# Altium footprint library Header-2mm-2X22-M-V.PcbLib: 1 footprints
Each footprint in its own frame and in the unit in brackets; x right, y up, seen from the top. Pads: shape width x height; smd on the part's side, far side on the other; paste and mask are expansions set on the pad; w line width, h text height; cw(c..) or ccw(c..) is an arc to the next point about the centre after c.
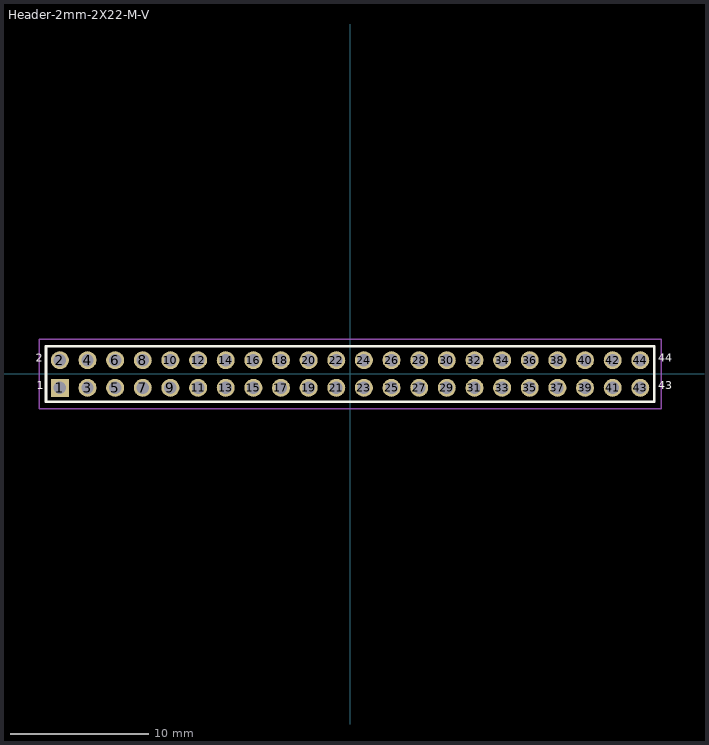
[diagram p0: the footprint, top view; thin cyan lines are the x and y axes]

## Header-2mm-2X22-M-V [mm]
pads (44):
  rect 1.3x1.3 hole 0.9: 1(-21,-1)
  round 1.3 hole 0.9: 2(-21,1) 3(-19,-1) 4(-19,1) 5(-17,-1) 6(-17,1) 7(-15,-1) 8(-15,1) 9(-13,-1) 10(-13,1) 11(-11,-1) 12(-11,1) 13(-9,-1) 14(-9,1) 15(-7,-1) 16(-7,1) 17(-5,-1) 18(-5,1) 19(-3,-1) 20(-3,1) 21(-1,-1) 22(-1,1) 23(1,-1) 24(1,1) 25(3,-1) 26(3,1) 27(5,-1) 28(5,1) 29(7,-1) 30(7,1) 31(9,-1) 32(9,1) 33(11,-1) 34(11,1) 35(13,-1) 36(13,1) 37(15,-1) 38(15,1) 39(17,-1) 40(17,1) 41(19,-1) 42(19,1) 43(21,-1) 44(21,1)
Top Overlay:
  lines w0.2: -22,-2 -22,2 22,2 22,-2 -22,-2
  text "44" at 22.296,0.679 h1
  text "43" at 22.305,-1.316 h1
  text "2" at -22.74,0.678 h1
  text "1" at -22.666,-1.322 h1
Top Courtyard:
  lines w0.1: -22.5,-2.5 -22.5,2.5 22.5,2.5 22.5,-2.5 -22,-2.5 -22.5,-2.5
3D body "MTMM-101-03-F-S-150.stp": height 5.31, standoff -2.36, extent 20,0.001 22,2
3D body "MTMM-101-03-F-S-150.stp": height 5.31, standoff -2.36, extent 20,-1.999 22,0
3D body "MTMM-101-03-F-S-150.stp": height 5.31, standoff -2.36, extent 18,0.001 20,2
3D body "MTMM-101-03-F-S-150.stp": height 5.31, standoff -2.36, extent 18,-1.999 20,0
3D body "MTMM-101-03-F-S-150.stp": height 5.31, standoff -2.36, extent 16,0.001 18,2
3D body "MTMM-101-03-F-S-150.stp": height 5.31, standoff -2.36, extent 16,-1.999 18,0
3D body "MTMM-101-03-F-S-150.stp": height 5.31, standoff -2.36, extent 14,0.001 16,2
3D body "MTMM-101-03-F-S-150.stp": height 5.31, standoff -2.36, extent 14,-1.999 16,0
3D body "MTMM-101-03-F-S-150.stp": height 5.31, standoff -2.36, extent 12,0.001 14,2
3D body "MTMM-101-03-F-S-150.stp": height 5.31, standoff -2.36, extent 12,-1.999 14,0
3D body "MTMM-101-03-F-S-150.stp": height 5.31, standoff -2.36, extent 10,0.001 12,2
3D body "MTMM-101-03-F-S-150.stp": height 5.31, standoff -2.36, extent 10,-1.999 12,0
3D body "MTMM-101-03-F-S-150.stp": height 5.31, standoff -2.36, extent 8,0.001 10,2
3D body "MTMM-101-03-F-S-150.stp": height 5.31, standoff -2.36, extent 8,-1.999 10,0
3D body "MTMM-101-03-F-S-150.stp": height 5.31, standoff -2.36, extent 6,0.001 8,2
3D body "MTMM-101-03-F-S-150.stp": height 5.31, standoff -2.36, extent 6,-1.999 8,0
3D body "MTMM-101-03-F-S-150.stp": height 5.31, standoff -2.36, extent 4,0.001 6,2
3D body "MTMM-101-03-F-S-150.stp": height 5.31, standoff -2.36, extent 4,-1.999 6,0
3D body "MTMM-101-03-F-S-150.stp": height 5.31, standoff -2.36, extent 2,0.001 4,2
3D body "MTMM-101-03-F-S-150.stp": height 5.31, standoff -2.36, extent 2,-1.999 4,0
3D body "MTMM-101-03-F-S-150.stp": height 5.31, standoff -2.36, extent 0,0.001 2,2
3D body "MTMM-101-03-F-S-150.stp": height 5.31, standoff -2.36, extent 0,-1.999 2,0
3D body "MTMM-101-03-F-S-150.stp": height 5.31, standoff -2.36, extent -2,0.001 0,2
3D body "MTMM-101-03-F-S-150.stp": height 5.31, standoff -2.36, extent -2,-1.999 0,0
3D body "MTMM-101-03-F-S-150.stp": height 5.31, standoff -2.36, extent -4,0.001 -2,2
3D body "MTMM-101-03-F-S-150.stp": height 5.31, standoff -2.36, extent -4,-1.999 -2,0
3D body "MTMM-101-03-F-S-150.stp": height 5.31, standoff -2.36, extent -6,0.001 -4,2
3D body "MTMM-101-03-F-S-150.stp": height 5.31, standoff -2.36, extent -6,-1.999 -4,0
3D body "MTMM-101-03-F-S-150.stp": height 5.31, standoff -2.36, extent -8,0.001 -6,2
3D body "MTMM-101-03-F-S-150.stp": height 5.31, standoff -2.36, extent -8,-1.999 -6,0
3D body "MTMM-101-03-F-S-150.stp": height 5.31, standoff -2.36, extent -10,0.001 -8,2
3D body "MTMM-101-03-F-S-150.stp": height 5.31, standoff -2.36, extent -10,-1.999 -8,0
3D body "MTMM-101-03-F-S-150.stp": height 5.31, standoff -2.36, extent -12,0.001 -10,2
3D body "MTMM-101-03-F-S-150.stp": height 5.31, standoff -2.36, extent -12,-1.999 -10,0
3D body "MTMM-101-03-F-S-150.stp": height 5.31, standoff -2.36, extent -14,0.001 -12,2
3D body "MTMM-101-03-F-S-150.stp": height 5.31, standoff -2.36, extent -14,-1.999 -12,0
3D body "MTMM-101-03-F-S-150.stp": height 5.31, standoff -2.36, extent -16,0.001 -14,2
3D body "MTMM-101-03-F-S-150.stp": height 5.31, standoff -2.36, extent -16,-1.999 -14,0
3D body "MTMM-101-03-F-S-150.stp": height 5.31, standoff -2.36, extent -18,0.001 -16,2
3D body "MTMM-101-03-F-S-150.stp": height 5.31, standoff -2.36, extent -18,-1.999 -16,0
3D body "MTMM-101-03-F-S-150.stp": height 5.31, standoff -2.36, extent -20,0.001 -18,2
3D body "MTMM-101-03-F-S-150.stp": height 5.31, standoff -2.36, extent -22,0.001 -20,2
3D body "MTMM-101-03-F-S-150.stp": height 5.31, standoff -2.36, extent -20,-1.999 -18,0
3D body "MTMM-101-03-F-S-150.stp": height 5.31, standoff -2.36, extent -22,-1.999 -20,0